# Altium schematic symbol library Components - 26.08.25 - 14.51.SchLib: 1 symbol
Pins are listed as number, name and electrical type; pins without a type are passive.

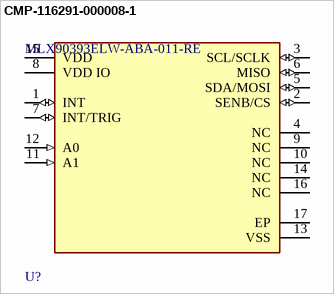
[diagram p0: symbol CMP-116291-000008-1]

## CMP-116291-000008-1
designator U?, comment MLX90393ELW-ABA-011-RE
SENSOR HALL I2C/SPI 16QFN; Axis: X, Y, Z; Sensing Method: Hall Effect; Output Type: SPI; Max Output Current: 100uA; Max Supply Current: 4mA; Resolution: 16b; Bandwidth: 10Hz; Case/Package: QFN; Min Operating Temperature: -20°C; Packaging: Cut Tape; Max Operating Temperature: 85°C; RoHS Compliant: Yes
footprint FP-MLX90393ELW-ABA-011-RE-IPC_C
footprint FP-MLX90393ELW-ABA-011-RE-IPC_B
footprint FP-MLX90393ELW-ABA-011-RE-IPC_A
pins: 1 INT (io), 2 SENB/CS (io), 3 SCL/SCLK (io), 4 NC, 5 SDA/MOSI (io), 6 MISO (io), 7 INT/TRIG (io), 8 VDD IO (power), 9 NC, 10 NC, 11 A1 (in), 12 A0 (in), 13 VSS (power), 14 NC, 15 VDD (power), 16 NC, 17 EP